# Altium footprint library JUMPER.PcbLib: 1 footprints
Each footprint in its own frame and in the unit in brackets; x right, y up, seen from the top. Pads: shape width x height; smd on the part's side, far side on the other; paste and mask are expansions set on the pad; w line width, h text height; cw(c..) or ccw(c..) is an arc to the next point about the centre after c.
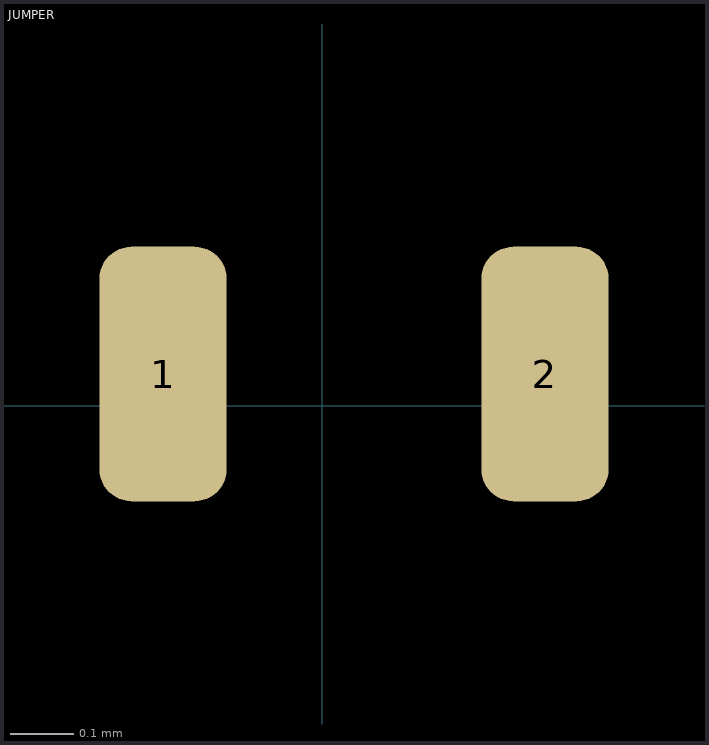
[diagram p0: the footprint, top view; thin cyan lines are the x and y axes]

## JUMPER [mm]
pads (2):
  rrect50% 0.2x0.4 smd mask+0.05: 1(-0.25,0.05) 2(0.35,0.05)